# EAGLE library part LCD_CHARLCD_16X2 (library mylib_20130829)
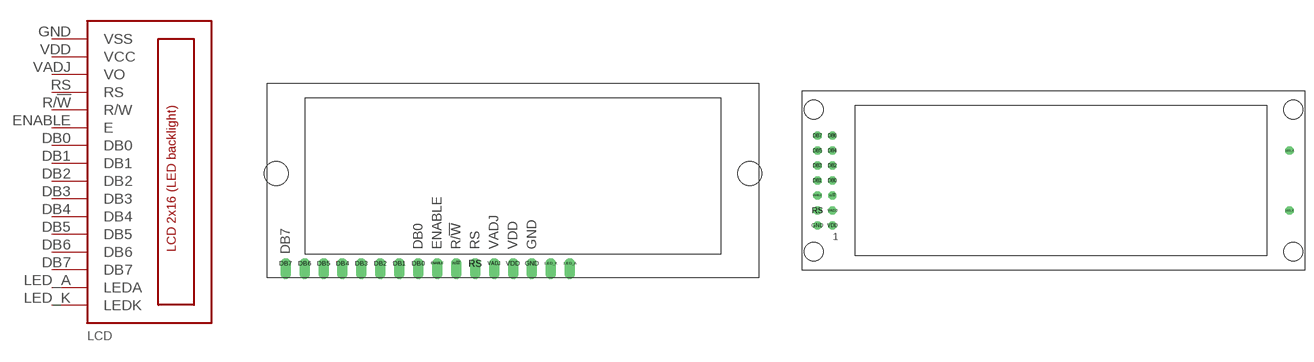
[diagram p36: symbol with the pads of LCD_CHARLCD_16X2_1; footprints LCD_CHARLCD_16X2_1, LCD_CHARLCD_16X2_2]

Designator prefix LCD

## LCD_CHARLCD_16X2_1  [LCD_CHARLCD_16X2_1]
DB0  DB0
DB1  DB1
DB2  DB2
DB3  DB3
DB4  DB4
DB5  DB5
DB6  DB6
DB7  DB7
ENABLE  E  in
GND  VSS  pwr
LED_A  LEDA  pas
LED_K  LEDK  pas
R/!W!  R/W  in
RS  RS  in
VADJ  VO  in
VDD  VCC  pwr

## LCD_CHARLCD_16X2_2  [LCD_CHARLCD_16X2_2]
Pads as for LCD_CHARLCD_16X2_1

## LCD_CHARLCD_16X2_3  [LCD_CHARLCD_20X4_1]
Pads as for LCD_CHARLCD_16X2_1

## Footprint LCD_CHARLCD_16X2_1 (pad centres in mm)
drill 0.9 offset: DB0 20.32,1.905; DB1 17.78,1.905; DB2 15.24,1.905; DB3 12.7,1.905; DB4 10.16,1.905; DB5 7.62,1.905; DB6 5.08,1.905; DB7 2.54,1.905; ENABLE 22.86,1.905; GND 35.56,1.905; LED_A 40.64,1.905; LED_K 38.1,1.905; R/!W! 25.4,1.905; RS 27.94,1.905; VADJ 30.48,1.905; VDD 33.02,1.905
hole 3.2 at 64.77,13.97
hole 3.2 at 1.27,13.97

## Footprint LCD_CHARLCD_16X2_2 (pad centres in mm)
drill 0.9 octagon: DB0 5.08,15.24; DB1 2.54,15.24; DB2 5.08,17.78; DB3 2.54,17.78; DB4 5.08,20.32; DB5 2.54,20.32; DB6 5.08,22.86; DB7 2.54,22.86; ENABLE 2.54,12.7; GND 2.54,7.62; LED_A 82.55,20.32; LED_K 82.55,10.16; R/!W! 5.08,12.7; RS 2.54,10.16; VADJ 5.08,10.16; VDD 5.08,7.62
hole 3.2 at 83.185,27.305
hole 3.2 at 83.185,3.175
hole 3.2 at 1.905,27.305
hole 3.2 at 1.905,3.175

## Footprint LCD_CHARLCD_20X4_1 (pad centres in mm)
drill 0.9 octagon: DB0 7.62,21.59; DB1 5.08,21.59; DB2 7.62,24.13; DB3 5.08,24.13; DB4 7.62,26.67; DB5 5.08,26.67; DB6 7.62,29.21; DB7 5.08,29.21; ENABLE 5.08,19.05; GND 7.62,13.97; LED_A 112.395,26.67; LED_K 112.395,16.51; R/!W! 7.62,19.05; RS 5.08,16.51; VADJ 7.62,16.51; VDD 5.08,13.97
hole 3.2 at 3.81,36.195
hole 3.2 at 3.81,6.985
hole 3.2 at 112.395,36.195
hole 3.2 at 112.395,6.985